# Altium schematic symbol library CapacitorsPoll_TH.SchLib: 4 symbols
Pins are listed as number, name and electrical type; pins without a type are passive.

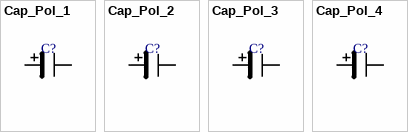
[diagram p0: symbols Cap_Pol_1 to Cap_Pol_4]

## Cap_Pol_1
designator C?, comment Th 2.54mm  (value not drawn)
Manufacturer_Part_Number: Cap_Pol_1; Vendor: Panasonic; Built_By: EMA_UL_Team; SourceLibrary: Panasonic_2012-04-02a; Type: DEV; RefDes: RefDes
footprint 2.54mm
footprint 2.54mm
pins: 1, 2

## Cap_Pol_2
designator C?, comment Th 3.08mm  (value not drawn)
Manufacturer_Part_Number: Cap_Pol_2; Vendor: Panasonic; Built_By: EMA_UL_Team; SourceLibrary: Panasonic_2012-04-02a; Type: DEV; RefDes: RefDes
footprint 3.08mm
pins: 1, 2

## Cap_Pol_3
designator C?, comment Th 3.08mm Max  (value not drawn)
Manufacturer_Part_Number: Cap_Pol_3; Vendor: Panasonic; Built_By: EMA_UL_Team; SourceLibrary: Panasonic_2012-04-02a; Type: DEV; RefDes: RefDes
footprint 3.08mm Max
pins: 1, 2

## Cap_Pol_4
designator C?, comment Th 7.63  (value not drawn)
Th 7.63mm; Manufacturer_Part_Number: Cap_Pol_4; Vendor: Panasonic; Built_By: EMA_UL_Team; SourceLibrary: Panasonic_2012-04-02a; Type: DEV; RefDes: RefDes
footprint 10.16MM
pins: 1, 2